# Altium footprint library SOP4-2_54.PcbLib: 1 footprints
Each footprint in its own frame and in the unit in brackets; x right, y up, seen from the top. Pads: shape width x height; smd on the part's side, far side on the other; paste and mask are expansions set on the pad; w line width, h text height; cw(c..) or ccw(c..) is an arc to the next point about the centre after c.
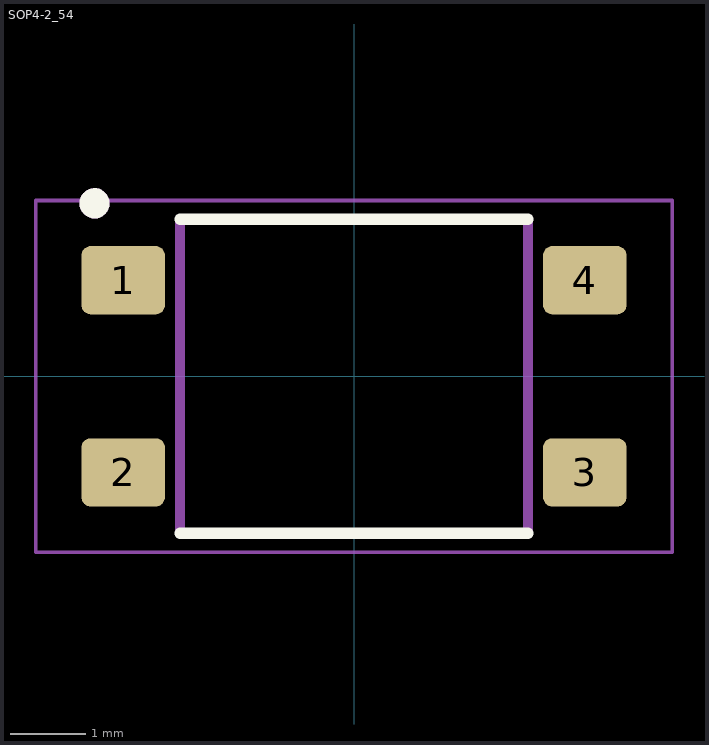
[diagram p0: the footprint, top view; thin cyan lines are the x and y axes]

## SOP4-2_54 [mm]
pads (4):
  rrect25% 1.1x0.9 smd: 1(-3.05,1.27) 2(-3.05,-1.27) 3(3.05,-1.27) 4(3.05,1.27)
Top Overlay:
  circle w0.2: c-3.429,2.286 r0.1
  lines w0.15: -2.3,-2.075 2.3,-2.075 ; -2.3,2.075 2.3,2.075
Assembly Top:
  circle w0.2: c-3.429,2.286 r0.1
  lines w0.1: -2.3,-2.075 2.3,-2.075 ; -2.3,2.075 2.3,2.075
  lines w0.127: -2.3,-2.075 -2.3,2.075 ; 2.3,-2.075 2.3,2.075
Courtyard Top:
  lines w0.05: -4.205,-2.325 4.205,-2.325 4.205,2.325 -4.205,2.325 -4.205,-2.325
3D body "step_temp.STEP": height 2.4, standoff 0, extent -3.5,-1.925 3.5,1.925